# Altium footprint library Driver_Pololu_2_Canais.PcbLib: 1 footprints
Each footprint in its own frame and in the unit in brackets; x right, y up, seen from the top. Pads: shape width x height; smd on the part's side, far side on the other; paste and mask are expansions set on the pad; w line width, h text height; cw(c..) or ccw(c..) is an arc to the next point about the centre after c.
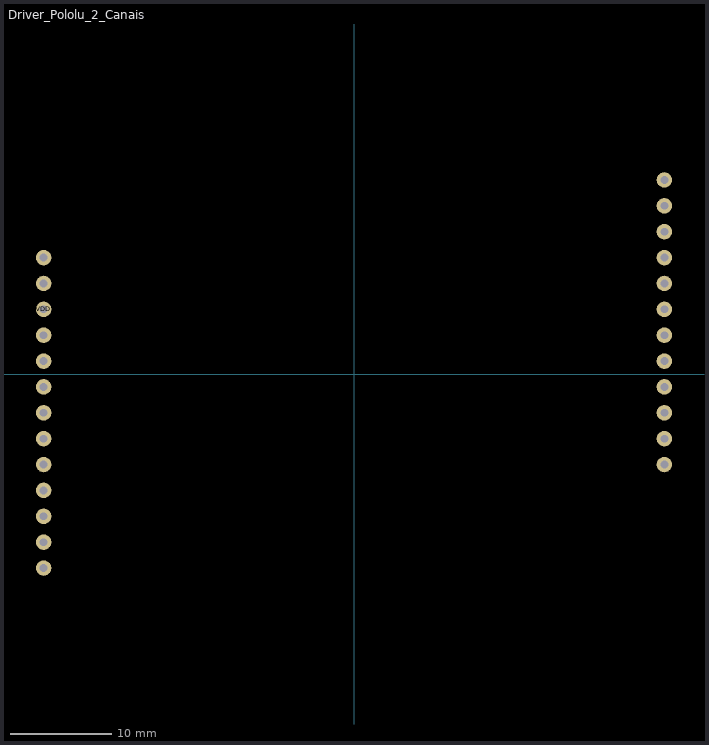
[diagram p0: the footprint, top view; thin cyan lines are the x and y axes]

## Driver_Pololu_2_Canais [mil]
pads (25):
  round 60 hole 30: GND_Logic(-1200,450) GND_Power_1(1200,350) GND_Power_2(1200,250) M1A_1(1200,750) M1A_2(1200,650) M1B_1(1200,550) M1B_2(1200,450) M1CS(-1200,-250) M1EN(-1200,150) M1INA(-1200,50) M1INB(-1200,-50) M1PWM(-1200,-150) M2A_1(1200,-50) M2A_2(1200,-150) M2B_1(1200,-250) M2B_2(1200,-350) M2CS(-1200,-750) M2EN(-1200,-350) M2INA(-1200,-450) M2INB(-1200,-550) M2PWM(-1200,-650) VDD(-1200,250) VIN_1(1200,150) VIN_2(1200,50) VOUT(-1200,350)